# Altium schematic symbol library Atmel.SchLib: 7 symbols
Pins are listed as number, name and electrical type; pins without a type are passive.

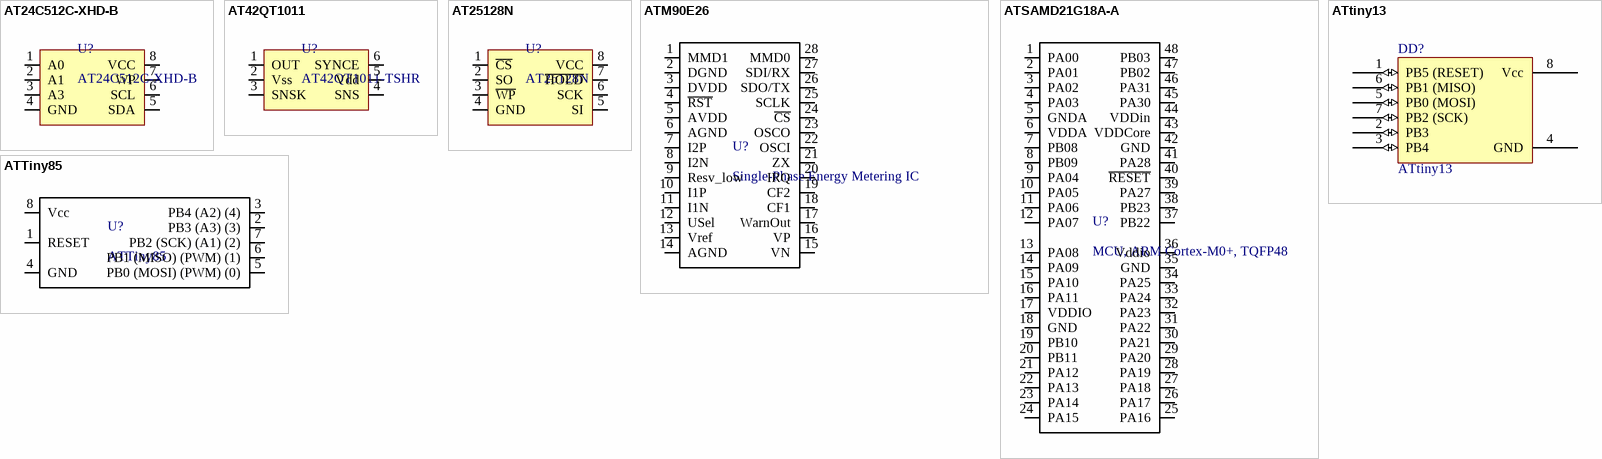
[diagram p0: symbols AT24C512C-XHD-B to ATTiny85]

## AT24C512C-XHD-B
designator U?
Caralog: Farnell; Catalog number: 1972007; Price: 1.10; Value: AT24C512C-XHD-B
footprint TSSOP-8 pich 0.65 (TSOP, 8-Leads, Body 3.1x4.5mm (max), Pitch 0.65mm, IPC Medium Density)
pins: 1 A0, 2 A1, 3 A3, 4 GND, 5 SDA, 6 SCL, 7 WP, 8 VCC

## AT42QT1011
designator U?, comment AT42QT1011-TSHR
ATMEL - AT42QT1011-TSHR - SENSOR, TOUCH, CAP, 1CH, 6SOT-23; Catalog: Farnell; Catalog number: 1841594; Price: 0.51; Value: AT42QT1011-TSHR
footprint SOT26A-6L (SOT23, 6-Leads, Body 2.9x1.7mm, Pitch 0.95mm, Lead Span 2.8mm, IPC High Density)
pins: 1 OUT, 2 Vss, 3 SNSK, 4 SNS, 5 Vdd, 6 SYNCE

## AT25128N
designator U?
Caralog: Farnell
footprint TSSOP-8 pich 0.65 (TSOP, 8-Leads, Body 3.1x4.5mm (max), Pitch 0.65mm, IPC Medium Density)
pins: 1 ~{CS}, 2 SO, 3 ~{WP}, 4 GND, 5 SI, 6 SCK, 7 ~{HOLD}, 8 VCC

## ATM90E26
designator U?, comment Single-Phase Energy Metering IC
Manufacturer: Microchip; Part Number: ATM90E26; Price 1: 1.53; Price 100: 1.29; Price 1000: 1.29
footprint SSOP-28
pins: 1 MMD1, 2 DGND, 3 DVDD, 4 ~{RST}, 5 AVDD, 6 AGND, 7 I2P, 8 I2N, 9 Resv_low, 10 I1P, 11 I1N, 12 USel, 13 Vref, 14 AGND, 15 VN, 16 VP, 17 WarnOut, 18 CF1, 19 CF2, 20 IRQ, 21 ZX, 22 OSCI, 23 OSCO, 24 ~{CS}, 25 SCLK, 26 SDO/TX, 27 SDI/RX, 28 MMD0

## ATSAMD21G18A-A
designator U?, comment MCU, ARM Cortex-M0+, TQFP48
Manufacturer: Microchip; Part Number: ATSAMD21G18A-A; Price 1: 3.83; Price 100: 3.5; Price 1000: 3.13
footprint TQFP 48 0.5 Pitch
pins: 1 PA00, 2 PA01, 3 PA02, 4 PA03, 5 GNDA, 6 VDDA, 7 PB08, 8 PB09, 9 PA04, 10 PA05, 11 PA06, 12 PA07, 13 PA08, 14 PA09, 15 PA10, 16 PA11, 17 VDDIO, 18 GND, 19 PB10, 20 PB11, 21 PA12, 22 PA13, 23 PA14, 24 PA15, 25 PA16, 26 PA17, 27 PA18, 28 PA19, 29 PA20, 30 PA21, 31 PA22, 32 PA23, 33 PA24, 34 PA25, 35 GND, 36 Vddio, 37 PB22, 38 PB23, 39 PA27, 40 ~{RESET}, 41 PA28, 42 GND, 43 VDDCore, 44 VDDin, 45 PA30, 46 PA31, 47 PB02, 48 PB03

## ATtiny13
designator DD?
Catalog: Elfa; Catalog number: *; Value: *
footprint DIL 8 (DIP 8)
pins: 1 PB5 (RESET) (io), 2 PB3 (io), 3 PB4 (io), 4 GND (power), 5 PB0 (MOSI) (io), 6 PB1 (MISO) (io), 7 PB2 (SCK) (io), 8 Vcc (power)

## ATTiny85
designator U?
Manufacturer: Microchip; Part Number: ATTINY85-20SU; Price 1: 1.1; Price 100: 0.83; Price 1000: 0.83
footprint SOP8 universal
pins: 1 RESET, 2 PB3 (A3) (3), 3 PB4 (A2) (4), 4 GND, 5 PB0 (MOSI) (PWM) (0), 6 PB1 (MISO) (PWM) (1), 7 PB2 (SCK) (A1) (2), 8 Vcc